# EAGLE library part LTM8062 (library LTM8062)
MPPT - Power Tracking Battery Chargers
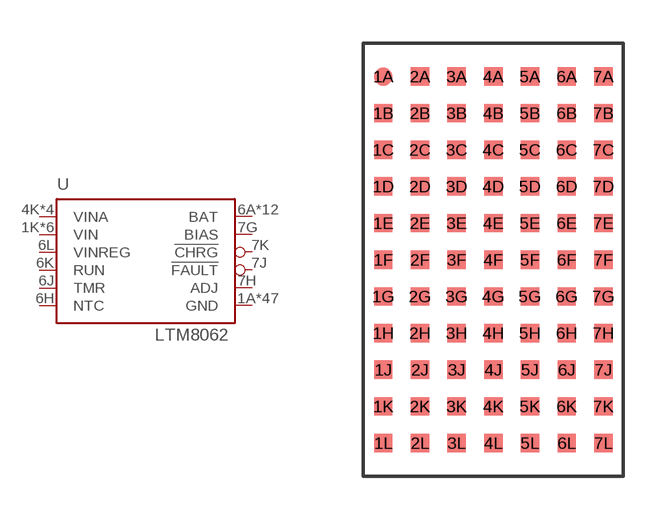
[diagram p0: symbol with the pads of LGA-77; footprint LGA-77]

Designator prefix -

## LTM8062  [LGA-77]
1A  GND
1B  GND
1C  GND
1D  GND
1E  GND
1F  GND
1G  GND
1H  GND
1J  GND
1K  VIN
1L  VIN
2A  GND
2B  GND
2C  GND
2D  GND
2E  GND
2F  GND
2G  GND
2H  GND
2J  GND
2K  VIN
2L  VIN
3A  GND
3B  GND
3C  GND
3D  GND
3E  GND
3F  GND
3G  GND
3H  GND
3J  GND
3K  VIN
3L  VIN
4A  GND
4B  GND
4C  GND
4D  GND
4E  GND
4F  GND
4G  GND
4H  GND
4J  GND
4K  VINA
4L  VINA
5A  GND
5B  GND
5C  GND
5D  GND
5E  GND
5F  GND
5G  GND
5H  GND
5J  GND
5K  VINA
5L  VINA
6A  BAT
6B  BAT
6C  BAT
6D  BAT
6E  BAT
6F  BAT
6G  GND
6H  NTC
6J  TMR
6K  RUN
6L  VINREG
7A  BAT
7B  BAT
7C  BAT
7D  BAT
7E  BAT
7F  BAT
7G  BIAS
7H  ADJ
7J  !FAULT
7K  !CHRG
7L  GND

## Footprint LGA-77 (pad centres in mm)
smd 0.635 x 0.635: 1A -3.81,6.35; 1B -3.81,5.08; 1C -3.81,3.81; 1D -3.81,2.54; 1E -3.81,1.27; 1F -3.81,0; 1G -3.81,-1.27; 1H -3.81,-2.54; 1J -3.81,-3.81; 1K -3.81,-5.08; 1L -3.81,-6.35; 2A -2.54,6.35; 2B -2.54,5.08; 2C -2.54,3.81; 2D -2.54,2.54; 2E -2.54,1.27; 2F -2.54,0; 2G -2.54,-1.27; 2H -2.54,-2.54; 2J -2.54,-3.81; 2K -2.54,-5.08; 2L -2.54,-6.35; 3A -1.27,6.35; 3B -1.27,5.08; 3C -1.27,3.81; 3D -1.27,2.54; 3E -1.27,1.27; 3F -1.27,0; 3G -1.27,-1.27; 3H -1.27,-2.54; 3J -1.27,-3.81; 3K -1.27,-5.08; 3L -1.27,-6.35; 4A 0,6.35; 4B 0,5.08; 4C 0,3.81; 4D 0,2.54; 4E 0,1.27; 4F 0,0; 4G 0,-1.27; 4H 0,-2.54; 4J 0,-3.81; 4K 0,-5.08; 4L 0,-6.35; 5A 1.27,6.35; 5B 1.27,5.08; 5C 1.27,3.81; 5D 1.27,2.54; 5E 1.27,1.27; 5F 1.27,0; 5G 1.27,-1.27; 5H 1.27,-2.54; 5J 1.27,-3.81; 5K 1.27,-5.08; 5L 1.27,-6.35; 6A 2.54,6.35; 6B 2.54,5.08; 6C 2.54,3.81; 6D 2.54,2.54; 6E 2.54,1.27; 6F 2.54,0; 6G 2.54,-1.27; 6H 2.54,-2.54; 6J 2.54,-3.81; 6K 2.54,-5.08; 6L 2.54,-6.35; 7A 3.81,6.35; 7B 3.81,5.08; 7C 3.81,3.81; 7D 3.81,2.54; 7E 3.81,1.27; 7F 3.81,0; 7G 3.81,-1.27; 7H 3.81,-2.54; 7J 3.81,-3.81; 7K 3.81,-5.08; 7L 3.81,-6.35